# EAGLE library part CY8CKIT-059-TARGET (library PatternAgents-Cypress)
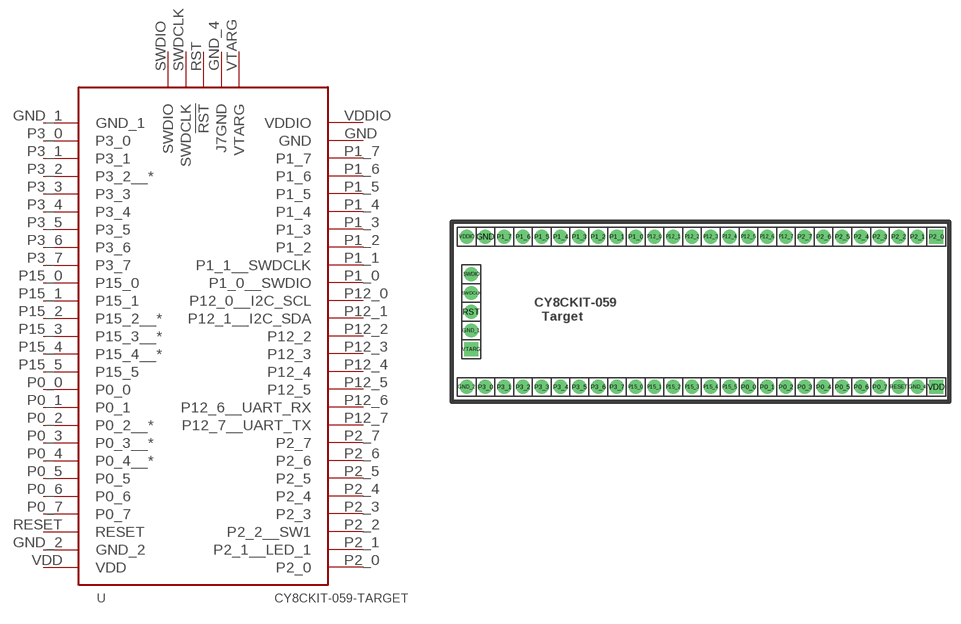
[diagram p39: symbol with the pads of CY8CKIT-059-TARGET; footprint CY8CKIT-059-TARGET]

Designator prefix -

## CY8CKIT-059-TARGET  [CY8CKIT-059-TARGET]
GND  GND
GND_1  GND_1
GND_2  GND_2
GND_4  J7GND
P0_0  P0_0
P0_1  P0_1
P0_2  P0_2__*
P0_3  P0_3__*
P0_4  P0_4__*
P0_5  P0_5
P0_6  P0_6
P0_7  P0_7
P1_0  P1_0__SWDIO
P1_1  P1_1__SWDCLK
P1_2  P1_2
P1_3  P1_3
P1_4  P1_4
P1_5  P1_5
P1_6  P1_6
P1_7  P1_7
P2_0  P2_0
P2_1  P2_1__LED_1
P2_2  P2_2__SW1
P2_3  P2_3
P2_4  P2_4
P2_5  P2_5
P2_6  P2_6
P2_7  P2_7
P3_0  P3_0
P3_1  P3_1
P3_2  P3_2__*
P3_3  P3_3
P3_4  P3_4
P3_5  P3_5
P3_6  P3_6
P3_7  P3_7
P12_0  P12_0__I2C_SCL
P12_1  P12_1__I2C_SDA
P12_2  P12_2
P12_3  P12_3
P12_4  P12_4
P12_5  P12_5
P12_6  P12_6__UART_RX
P12_7  P12_7__UART_TX
P15_0  P15_0
P15_1  P15_1
P15_2  P15_2__*
P15_3  P15_3__*
P15_4  P15_4__*
P15_5  P15_5
RESET  RESET
RST  !RST
SWDCLK  SWDCLK
SWDIO  SWDIO
VDD  VDD
VDDIO  VDDIO
VTARG  VTARG

## Footprint CY8CKIT-059-TARGET (pad centres in mm)
drill 1.016 pad 1.88: GND 4.826,22.606; GND_1 2.921,9.906; GND_2 2.286,2.286; GND_4 63.246,2.286; P0_0 40.386,2.286; P0_1 42.926,2.286; P0_2 45.466,2.286; P0_3 48.006,2.286; P0_4 50.546,2.286; P0_5 53.086,2.286; P0_6 55.626,2.286; P0_7 58.166,2.286; P1_0 25.146,22.606; P1_1 22.606,22.606; P1_2 20.066,22.606; P1_3 17.526,22.606; P1_4 14.986,22.606; P1_5 12.446,22.606; P1_6 9.906,22.606; P1_7 7.366,22.606; P2_1 63.246,22.606; P2_2 60.706,22.606; P2_3 58.166,22.606; P2_4 55.626,22.606; P2_5 53.086,22.606; P2_6 50.546,22.606; P2_7 48.006,22.606; P3_0 4.826,2.286; P3_1 7.366,2.286; P3_2 9.906,2.286; P3_3 12.446,2.286; P3_4 14.986,2.286; P3_5 17.526,2.286; P3_6 20.066,2.286; P3_7 22.606,2.286; P12_0 27.686,22.606; P12_1 30.226,22.606; P12_2 32.766,22.606; P12_3 35.306,22.606; P12_4 37.846,22.606; P12_5 40.386,22.606; P12_6 42.926,22.606; P12_7 45.466,22.606; P15_0 25.146,2.286; P15_1 27.686,2.286; P15_2 30.226,2.286; P15_3 32.766,2.286; P15_4 35.306,2.286; P15_5 37.846,2.286; RESET 60.706,2.286; RST 2.921,12.446; SWDCLK 2.921,14.986; SWDIO 2.921,17.526; VDDIO 2.286,22.606
drill 1.016 pad 1.88 square: P2_0 65.786,22.606; VDD 65.786,2.286; VTARG 2.921,7.366